# Altium integrated library 74 Serie's.IntLib: 4 symbols
Pins are listed as number, name and electrical type; pins without a type are passive.

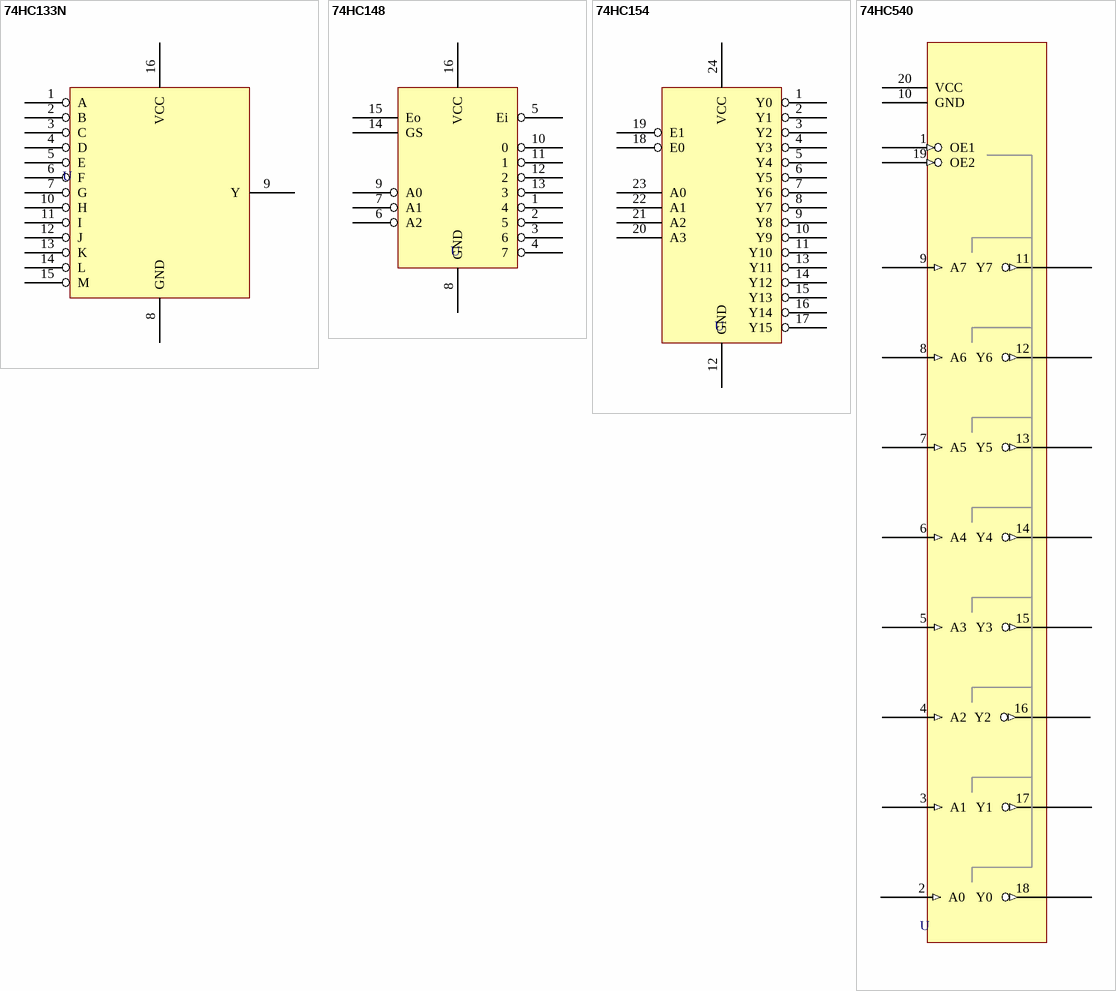
[diagram p0: symbols 74HC133N to 74HC540]

## 74HC133N
designator U
13 bit input NAND Gate
footprint 74HC133N - V1 (13 bit input NAND Gate)
footprint 74HC133N - V2 (13 bit input NAND Gate)
pins: 1 A, 2 B, 3 C, 4 D, 5 E, 6 F, 7 G, 8 GND, 9 Y, 10 H, 11 I, 12 J, 13 K, 14 L, 15 M, 16 VCC

## 74HC148
designator U
Encoder 8 to 3
footprint 74HC148 (Encoder 8 to 3)
pins: 1 4, 2 5, 3 6, 4 7, 5 Ei, 6 A2, 7 A1, 8 GND, 9 A0, 10 0, 11 1, 12 2, 13 3, 14 GS, 15 Eo, 16 VCC

## 74HC154
designator U
Decoder 4 to 16
footprint 74HC154 (Decoder 4 to 16)
pins: 1 Y0, 2 Y1, 3 Y2, 4 Y3, 5 Y4, 6 Y5, 7 Y6, 8 Y7, 9 Y8, 10 Y9, 11 Y10, 12 GND, 13 Y11, 14 Y12, 15 Y13, 16 Y14, 17 Y15, 18 E0, 19 E1, 20 A3, 21 A2, 22 A1, 23 A0, 24 VCC

## 74HC540
designator U
3 state inverting Buffer
footprint 74HC540 (3 state inverting Buffer)
pins: 1 OE1 (in), 2 A0 (in), 3 A1 (in), 4 A2 (in), 5 A3 (in), 6 A4 (in), 7 A5 (in), 8 A6 (in), 9 A7 (in), 10 GND, 11 Y7 (out), 12 Y6 (out), 13 Y5 (out), 14 Y4 (out), 15 Y3 (out), 16 Y2 (out), 17 Y1 (out), 18 Y0 (out), 19 OE2 (in), 20 VCC